# Altium footprint library STM_PCB_LIB.PcbLib: 13 footprints
Each footprint in its own frame and in the unit in brackets; x right, y up, seen from the top. Pads: shape width x height; smd on the part's side, far side on the other; paste and mask are expansions set on the pad; w line width, h text height; cw(c..) or ccw(c..) is an arc to the next point about the centre after c.
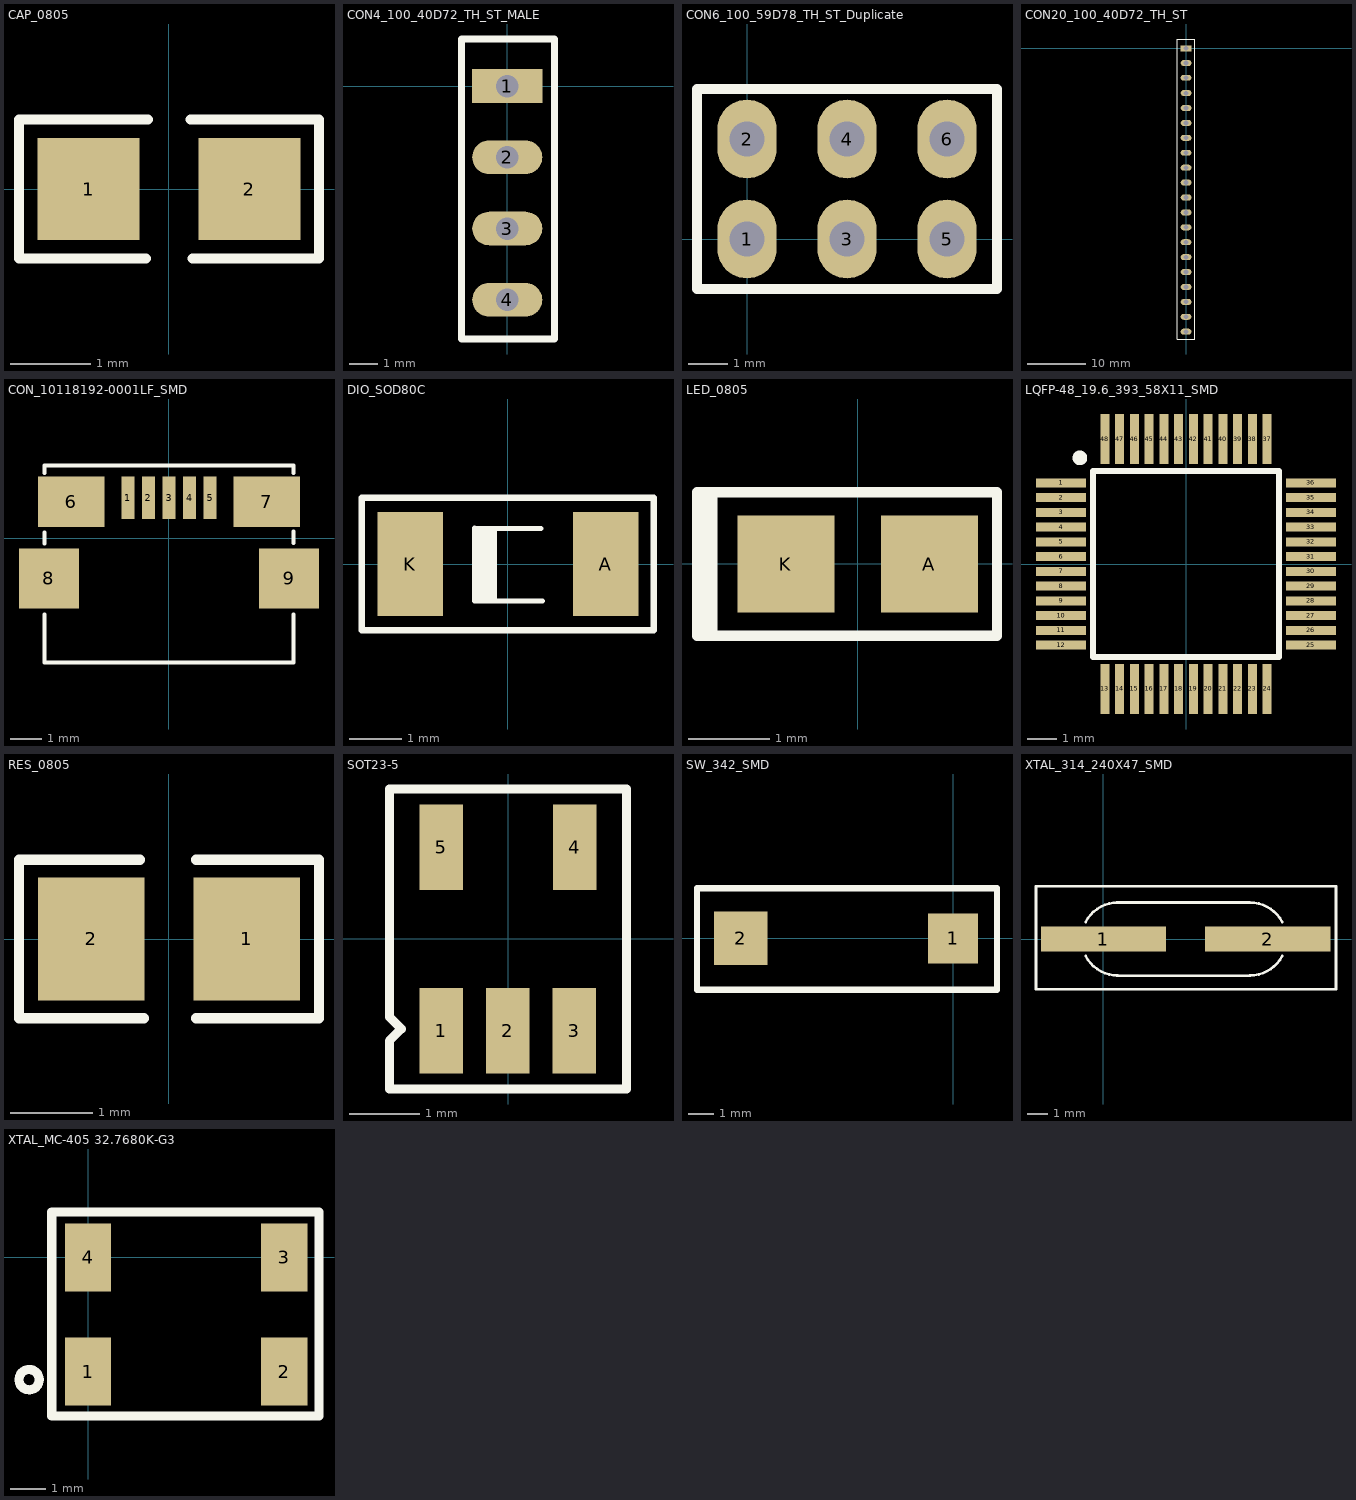
[diagram p0: the footprints below, top view; thin cyan lines are the x and y axes]

## CAP_0805 [mm] "Ceramic Capacitor"
height 0.7
pads (2):
  rect 1.27x1.27 smd mask+0.076: 1(-1,0) 2(1,0)
Top Overlay:
  lines w0.127: -0.289,-0.864 -1.864,-0.864 -1.864,0.864 -0.263,0.864 ; 0.27,0.864 1.845,0.864 ; 0.295,-0.864 1.845,-0.864 ; 1.864,-0.864 1.864,0.864
3D body "0805 SMD Capacitor.STEP": height 0.78, standoff 0, extent -1,-0.625 1,0.625

## CON4_100_40D72_TH_ST_MALE [mm] "Berg Strip"
height 11.5
pads (4):
  rect 2.5x1.2 hole 0.8: 1(0,0)
  oval 2.5x1.2 hole 0.8: 2(0,-2.54) 3(0,-5.08) 4(0,-7.62)
Top Overlay:
  lines w0.254: -1.626,-9.017 -1.626,1.676 1.676,1.676 1.676,0.914 1.676,-9.017 -1.626,-9.017
3D body "65781.stp": height 8.55, standoff -2.99, extent -1.143,-8.763 1.397,1.397

## CON6_100_59D78_TH_ST_Duplicate [mm] "Berg strip"
height 10
pads (6):
  oval 1.5x2 hole 0.9: 1(0,0) 2(0,2.54) 3(2.54,0) 4(2.54,2.54) 5(5.08,0) 6(5.08,2.54)
Top Overlay:
  lines w0.254: -1.27,-1.27 6.35,-1.27 6.35,3.81 -1.27,3.81 -1.27,-1.27
3D body "77313-118-06lf.stp": height 8.18, standoff -3.32, extent -1.07,-1.27 6.15,3.56

## CON20_100_40D72_TH_ST [mil] "Berg strip"
height 393.7
pads (20):
  rect 72x40 hole 31.5: 1(0,0)
  oval 72x40 hole 31.5: 2(0,-98.43) 3(0,-196.85) 4(0,-300) 5(0,-400) 6(0,-500) 7(0,-600) 8(0,-700) 9(0,-800) 10(0,-900) 11(0,-1000) 12(0,-1100) 13(0,-1200) 14(0,-1300) 15(0,-1400) 16(0,-1500) 17(0,-1600) 18(0,-1700) 19(0,-1800) 20(0,-1900)
Top Overlay:
  lines w7.87: -58,-1949 -58,62.99 57,62.99 57,-1949 -58,-1949
3D body "pin_header_aw_109_20-t.stp": height 322.83, standoff -118.11, extent -51.14,-1949 47.14,51

## CON_10118192-0001LF_SMD [mm] "USB2.0 MICRO"
height 1.85
pads (9):
  rect 0.4x1.35 smd: 1(-1.3,1.275) 2(-0.65,1.275) 3(0,1.275) 4(0.65,1.275) 5(1.3,1.275)
  rect 2.1x1.6 smd: 6(-3.1,1.15) 7(3.1,1.15)
  rect 1.9x1.9 smd: 8(-3.8,-1.275) 9(3.8,-1.275)
Top Overlay:
  lines w0.127: -3.95,-2.421 -3.95,-3.945 3.95,-3.945 3.95,-2.421 ; -3.95,-0.178 -3.95,0.178 ; -3.95,2.057 -3.95,2.3 3.95,2.3 3.95,2.057 ; 3.95,-0.152 3.95,0.203
3D body "zx62-b-5pa_33_.stp": height 2.81, standoff -0.14, extent -4.037,-3.945 4.037,1.655

## DIO_SOD80C [mm] "Voltage regulator diodes"
height 1.6
pads (2):
  rect 1.25x2 smd: A(1.875,0) K(-1.875,0)
Top Overlay:
  rectangle: -0.69,-0.71 -0.208,0.687
  lines w0.1: -0.639,-0.71 0.656,-0.71 ; -0.639,0.687 0.631,0.679
  lines w0.127: -2.8,-1.27 2.794,-1.27 2.794,1.27 -2.8,1.27 -2.8,-1.27
3D body "User Library-SOD80-3.STEP": height 1.5, standoff 0, extent -1.825,-0.775 1.775,0.725

## LED_0805 [mm] "LED"
height 0.9
pads (2):
  rect 1.2x1.2 smd mask+0.076: A(0.889,0) K(-0.889,0)
Top Overlay:
  rectangle: -1.987,-0.889 -1.733,0.889
  lines w0.127: -1.987,-0.889 -1.987,0.889 1.725,0.889 1.725,-0.889 -1.987,-0.889
3D body "led_0805.step": height 1.1, standoff 0, extent -1.01,-0.625 1.01,0.625

## LQFP-48_19.6_393_58X11_SMD [mm] "48LQFP"
height 1.45
pads (48):
  rect 1.7x0.3 smd mask+0.076: 1(-4.238,2.75) 2(-4.238,2.25) 3(-4.238,1.75) 4(-4.238,1.25) 5(-4.238,0.75) 6(-4.238,0.25) 7(-4.238,-0.25) 8(-4.238,-0.75) 9(-4.238,-1.25) 10(-4.238,-1.75) 11(-4.238,-2.25) 12(-4.238,-2.75) 25(4.238,-2.75) 26(4.238,-2.25) 27(4.238,-1.75) 28(4.238,-1.25) 29(4.238,-0.75) 30(4.238,-0.25) 31(4.238,0.25) 32(4.238,0.75) 33(4.238,1.25) 34(4.238,1.75) 35(4.238,2.25) 36(4.238,2.75)
  rect 0.3x1.7 smd mask+0.076: 13(-2.75,-4.238) 14(-2.25,-4.238) 15(-1.75,-4.238) 16(-1.25,-4.238) 17(-0.75,-4.238) 18(-0.25,-4.238) 19(0.25,-4.238) 20(0.75,-4.238) 21(1.25,-4.238) 22(1.75,-4.238) 23(2.25,-4.238) 24(2.75,-4.238) 37(2.75,4.238) 38(2.25,4.238) 39(1.75,4.238) 40(1.25,4.238) 41(0.75,4.238) 42(0.25,4.238) 43(-0.25,4.238) 44(-0.75,4.238) 45(-1.25,4.238) 46(-1.75,4.238) 47(-2.25,4.238) 48(-2.75,4.238)
Top Overlay:
  circle w0.25: c-3.6,3.6 r0.125
  lines w0.2: -3.15,-3.15 3.15,-3.15 3.15,3.15 -3.15,3.15 -3.15,-3.15
3D body "STM32F103C8T6TR.stp": height 1.7, standoff 0.1, extent -4.5,-4.5 4.5,4.5

## RES_0805 [mm] "Resister"
height 0.65
pads (2):
  rect 1.3x1.5 smd mask+0.076: 1(0.95,0) 2(-0.95,0)
Top Overlay:
  lines w0.127: -0.356,0.965 -1.829,0.965 -1.829,-0.965 -0.305,-0.965 ; 0.33,-0.965 1.829,-0.965 1.829,0.965 0.33,0.965
3D body "RES0805.stp": height 0.5, standoff 0, extent -1,-0.63 1,0.62

## SOT23-5 [mm] "CASE: SOT"
height 1.1
pads (5):
  rect 0.62x1.22 smd mask+0.076: 1(-0.953,-1.31) 2(-0.003,-1.31) 3(0.947,-1.31) 4(0.952,1.31) 5(-0.953,1.31)
Top Overlay:
  lines w0.127: -1.689,-2.138 -1.689,-1.452 -1.519,-1.281 -1.689,-1.111 -1.689,2.137 1.689,2.137 1.689,-2.138 -1.689,-2.138
3D body "User Library-SOT-23-5.STEP": height 1.41, standoff -0.05, extent -1.5,-1.5 1.5,1.5

## SW_342_SMD [mm] "CASE: SMD"
height 2.5
pads (2):
  rect 2x2 smd: 1(0,0)
  rect 2.15x2.15 smd: 2(-8.5,0)
Top Overlay:
  lines w0.254: -10.25,-2.057 1.75,-2.057 1.75,2 -10.25,2 -10.25,-2.057
3D body: height 2.4, standoff 0.1, extent -7.171,-1.793 -1.171,1.707

## XTAL_314_240X47_SMD [mm] "CASE: TH"
height 3
pads (2):
  rect 6.096x1.2 smd: 1(0,0) 2(8,0)
Top Overlay:
  lines w0.127: -0.873,-0.825 ccw(c0.702,0) 0.702,-1.778 ; -0.873,0.825 cw(c0.702,0) 0.702,1.778 ; 0.651,-1.787 7.137,-1.787 ; 0.651,1.778 7.128,1.778 cw(c7.128,0) 8.703,0.825 ; 7.128,-1.778 ccw(c7.128,0) 8.703,-0.825 ; -3.286,-2.438 -3.286,2.565 11.319,2.565 11.319,-2.438 -3.286,-2.438
3D body: height 0.51, standoff 0, extent -1.902,-2.273 9.795,2.413
3D body: height 3.05, standoff 0, extent -1.076,-1.778 8.881,1.778
3D body: height 1.02, standoff 0, extent 8.004,-2.273 9.808,-1.003
3D body: height 1.02, standoff 0, extent -1.902,-2.273 -0.098,-1.003
3D body: height 1.02, standoff 0, extent 7.992,1.143 9.795,2.413
3D body: height 1.02, standoff 0, extent -1.889,1.143 -0.086,2.413
3D body: height 0.25, standoff 0, extent 9.579,-0.419 10.9,0.394
3D body: height 0.25, standoff 0, extent -2.994,-0.419 -1.673,0.394

## XTAL_MC-405 32.7680K-G3 [mm] "Crystal"
height 3.6
pads (4):
  rect 1.3x1.9 smd: 1(0,-3.2) 2(5.5,-3.2) 3(5.5,0) 4(0,0)
Top Overlay:
  circle w0.254: c-1.651,-3.429 r0.284
  lines w0.254: -1.016,-4.445 -1.016,1.27 6.477,1.27 6.477,-4.445 -1.016,-4.445
3D body: height 3.6, standoff 0.2, extent -1.016,-4.445 6.477,1.27